# Altium footprint library HTMD-PREAMP2.PcbLib: 26 footprints (part 1 of 2)
Each footprint in its own frame and in the unit in brackets; x right, y up, seen from the top. Pads: shape width x height; smd on the part's side, far side on the other; paste and mask are expansions set on the pad; w line width, h text height; cw(c..) or ccw(c..) is an arc to the next point about the centre after c.
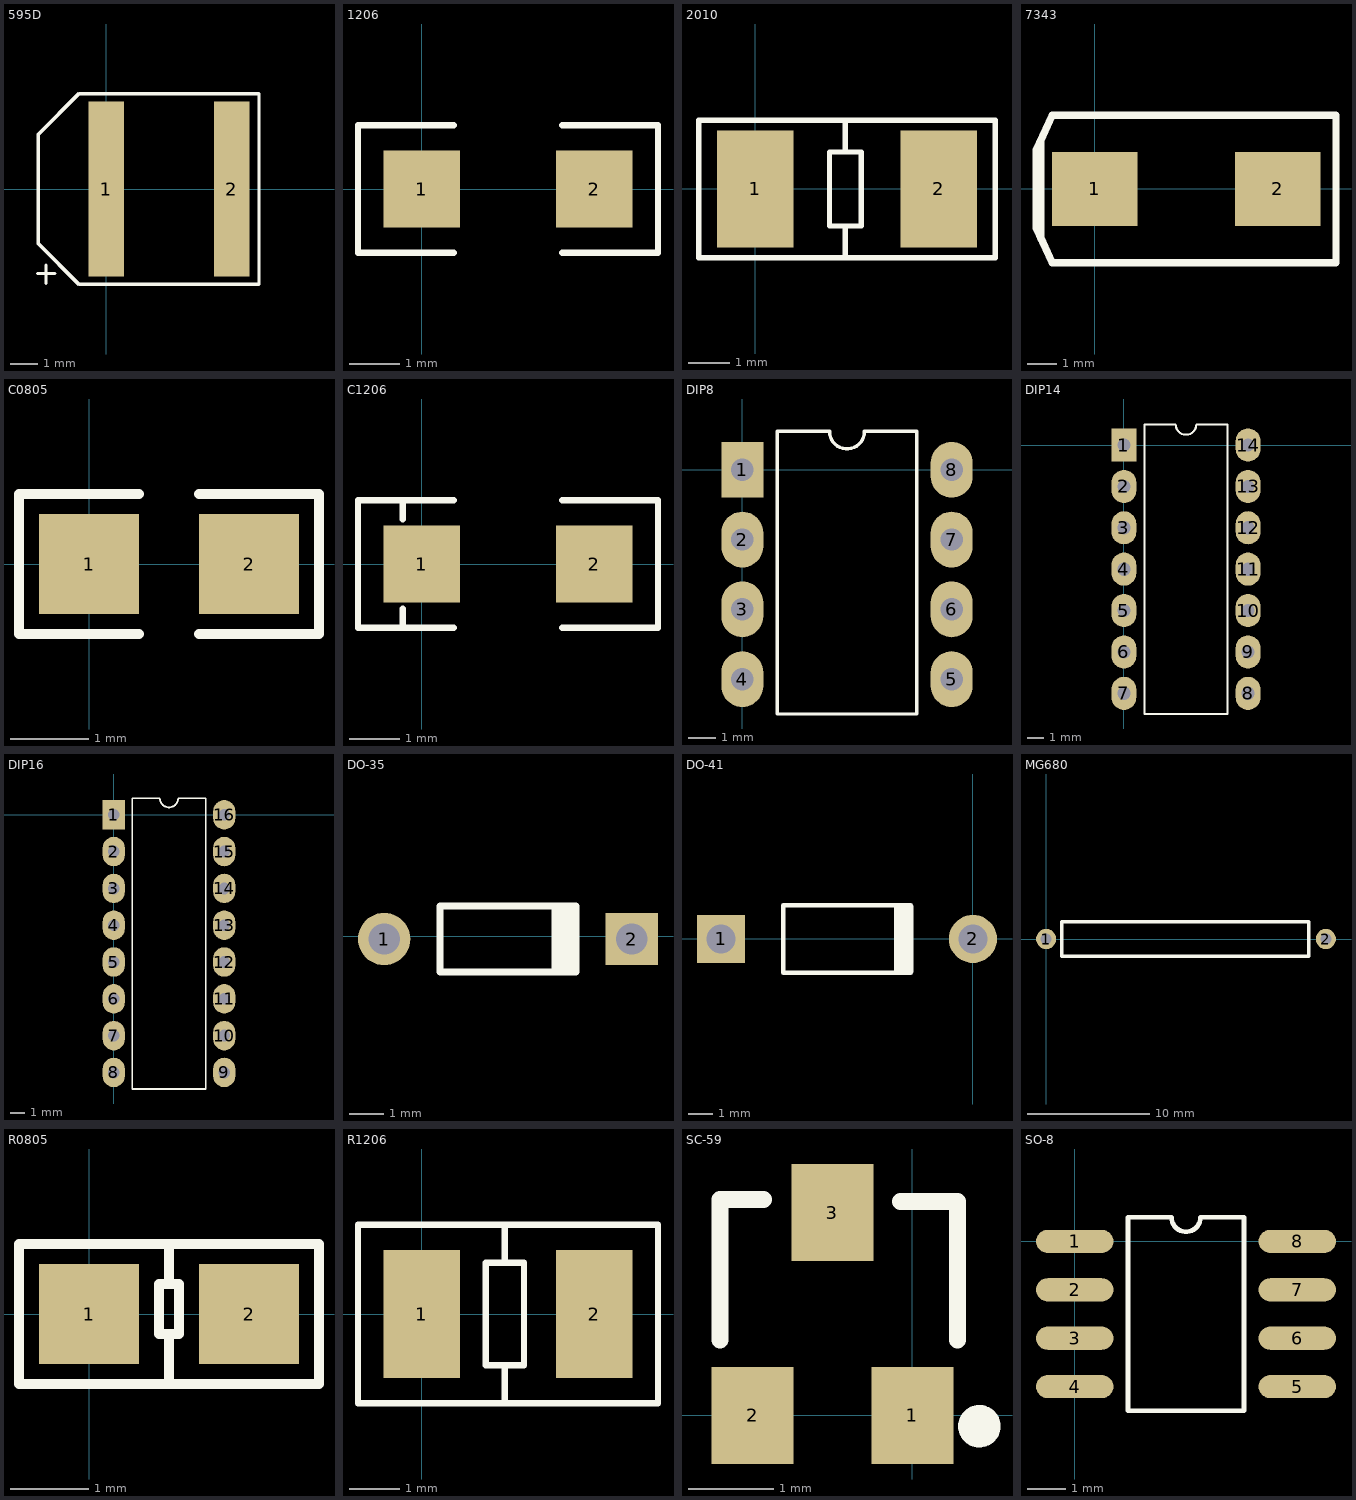
[diagram p0: the footprints below, top view; thin cyan lines are the x and y axes]

## 595D [mm]
pads (2):
  rect 1.3x6.4 smd: 1(0,0) 2(4.6,0)
Top Overlay:
  lines w0.127: -2.515,-3.099 -1.88,-3.099 ; -2.21,-3.454 -2.21,-2.794 ; -2.5,-2 -2.5,2 -1,3.5 5.6,3.5 5.6,-3.5 -1,-3.5 -2.5,-2

## 1206 [mil]
pads (2):
  rect 60x60 smd: 1(0,0) 2(135,0)
Top Overlay:
  lines w5: 25,-50 -50,-50 -50,50 25,50 ; 110,-50 185,-50 185,50 110,50

## 2010 [mil]
pads (2):
  rect 72x110 smd: 1(0,0) 2(173.23,0)
Top Overlay:
  lines w5: 85,-65 85,-35 ; 85,35 85,65 ; -53.39,-65 226.61,-65 226.61,65 -53.39,65 -53.39,-65 ; 70,-35 70,35 100,35 100,-35 70,-35

## 7343 [mm]
pads (2):
  rect 2.9x2.5 smd: 1(0,0) 2(6.2,0)
Top Overlay:
  lines w0.254: -1.84,1.649 -1.84,-1.675 -1.818,-1.698 ; -2,-1.3 -1.45,-2.5 8.18,-2.5 8.18,2.5 -1.45,2.5 -2,1.3 -2,-1.3
3D body "TAJ-D.STEP": height 2.9, standoff 0, extent -0.55,-2.023 6.75,2.277

## C0805 [mil]
pads (2):
  rect 50x50 smd: 1(0,0) 2(80,0)
Top Overlay:
  lines w5: 25,-35 -35,-35 -35,35 25,35 ; 55,-35 115,-35 115,35 55,35

## C1206 [mil]
pads (2):
  rect 60x60 smd: 1(0,0) 2(135,0)
Top Overlay:
  lines w5: -15,-50 -15,-35 ; -15,35 -15,50 ; 25,-50 -50,-50 -50,50 25,50 ; 110,-50 185,-50 185,50 110,50

## DIP8 [mil]
pads (8):
  rect 60x80 hole 32: 1(0,0)
  oval 60x80 hole 32: 2(0,-100) 3(0,-200) 4(0,-300) 5(300,-300) 6(300,-200) 7(300,-100) 8(300,0)
Top Overlay:
  lines w5: 50,-350 50,55 125,55 ccw(c150,55) 175,55 250,55 250,-350 50,-350

## DIP14 [mil] "DIP14"
pads (14):
  rect 60x80 hole 32: 1(0,0)
  oval 60x80 hole 32: 2(0,-100) 3(0,-200) 4(0,-300) 5(0,-400) 6(0,-500) 7(0,-600) 8(300,-600) 9(300,-500) 10(300,-400) 11(300,-300) 12(300,-200) 13(300,-100) 14(300,0)
Top Overlay:
  lines w5: 50,-650 50,50 125,50 ccw(c150,50) 175,50 250,50 250,-650 50,-650

## DIP16 [mil] "DIP16"
pads (16):
  rect 60x80 hole 32: 1(0,0)
  oval 60x80 hole 32: 2(0,-100) 3(0,-200) 4(0,-300) 5(0,-400) 6(0,-500) 7(0,-600) 8(0,-700) 9(300,-700) 10(300,-600) 11(300,-500) 12(300,-400) 13(300,-300) 14(300,-200) 15(300,-100) 16(300,0)
Top Overlay:
  lines w5: 50,-745 50,45 125,45 ccw(c150,45) 175,45 250,45 250,-745 50,-745

## DO-35 [mm]
pads (2):
  round 1.5 hole 0.9: 1(-9.691,-0.076)
  rect 1.5x1.5 hole 0.9: 2(-2.591,-0.076)
Top Overlay:
  rectangle: -4.891,-1.026 -4.091,0.874
  lines w0.2: -4.191,-1.026 -8.091,-1.026 -8.091,0.874 -4.191,0.874

## DO-41 [mm]
pads (2):
  rect 2x2 hole 1.2: 1(-10.46,0)
  round 2 hole 1.2: 2(0,0)
Top Overlay:
  rectangle: -3.272,-1.403 -2.472,1.397
  lines w0.2: -2.58,-1.4 -7.88,-1.4 -7.88,1.4 -2.58,1.4

## MG680 [mil]
pads (2):
  round 65 hole 35: 1(0,0) 2(900,0)
Top Overlay:
  lines w11.81: 50,-55 845,-55 845,55 50,55 50,-55

## R0805 [mil]
pads (2):
  rect 50x50 smd: 1(0,0) 2(80,0)
Top Overlay:
  lines w5: 40,-35 40,-10 ; 40,15 40,35 ; -35,-35 -35,35 115,35 115,-35 -35,-35 ; 35,-10 45,-10 45,15 35,15 35,-10

## R1206 [mil]
pads (2):
  rect 60x100 smd: 1(0,0) 2(135,0)
Top Overlay:
  lines w5: 65,-70 65,-40 ; 65,40 65,70 ; -50,-70 185,-70 185,70 -50,70 -50,-70 ; 50,-40 50,40 80,40 80,-40 50,-40

## SC-59 [mil]
height 74.8
pads (3):
  rect 38x45 smd: 1(0,0) 2(-74,0) 3(-37,94)
Top Overlay:
  circle w9.84: c31.08,-5 r4.92
  lines w7.87: -89,35 -89,100 -69,100 ; -5.54,99.21 21,99.21 21,35

## SO-8 [mil]
pads (8):
  oval 80x24 smd: 1(0,0) 2(0,-50) 3(0,-100) 4(0,-150) 5(230,-150) 6(230,-100) 7(230,-50) 8(230,0)
Top Overlay:
  lines w5: 55,-175 55,25 100,25 ccw(c115,25) 130,25 175,25 175,-175 55,-175